# Altium footprint library Train2.PCBLIB: 223 footprints (part 1 of 14)
Each footprint in its own frame and in the unit in brackets; x right, y up, seen from the top. Pads: shape width x height; smd on the part's side, far side on the other; paste and mask are expansions set on the pad; w line width, h text height; cw(c..) or ccw(c..) is an arc to the next point about the centre after c.
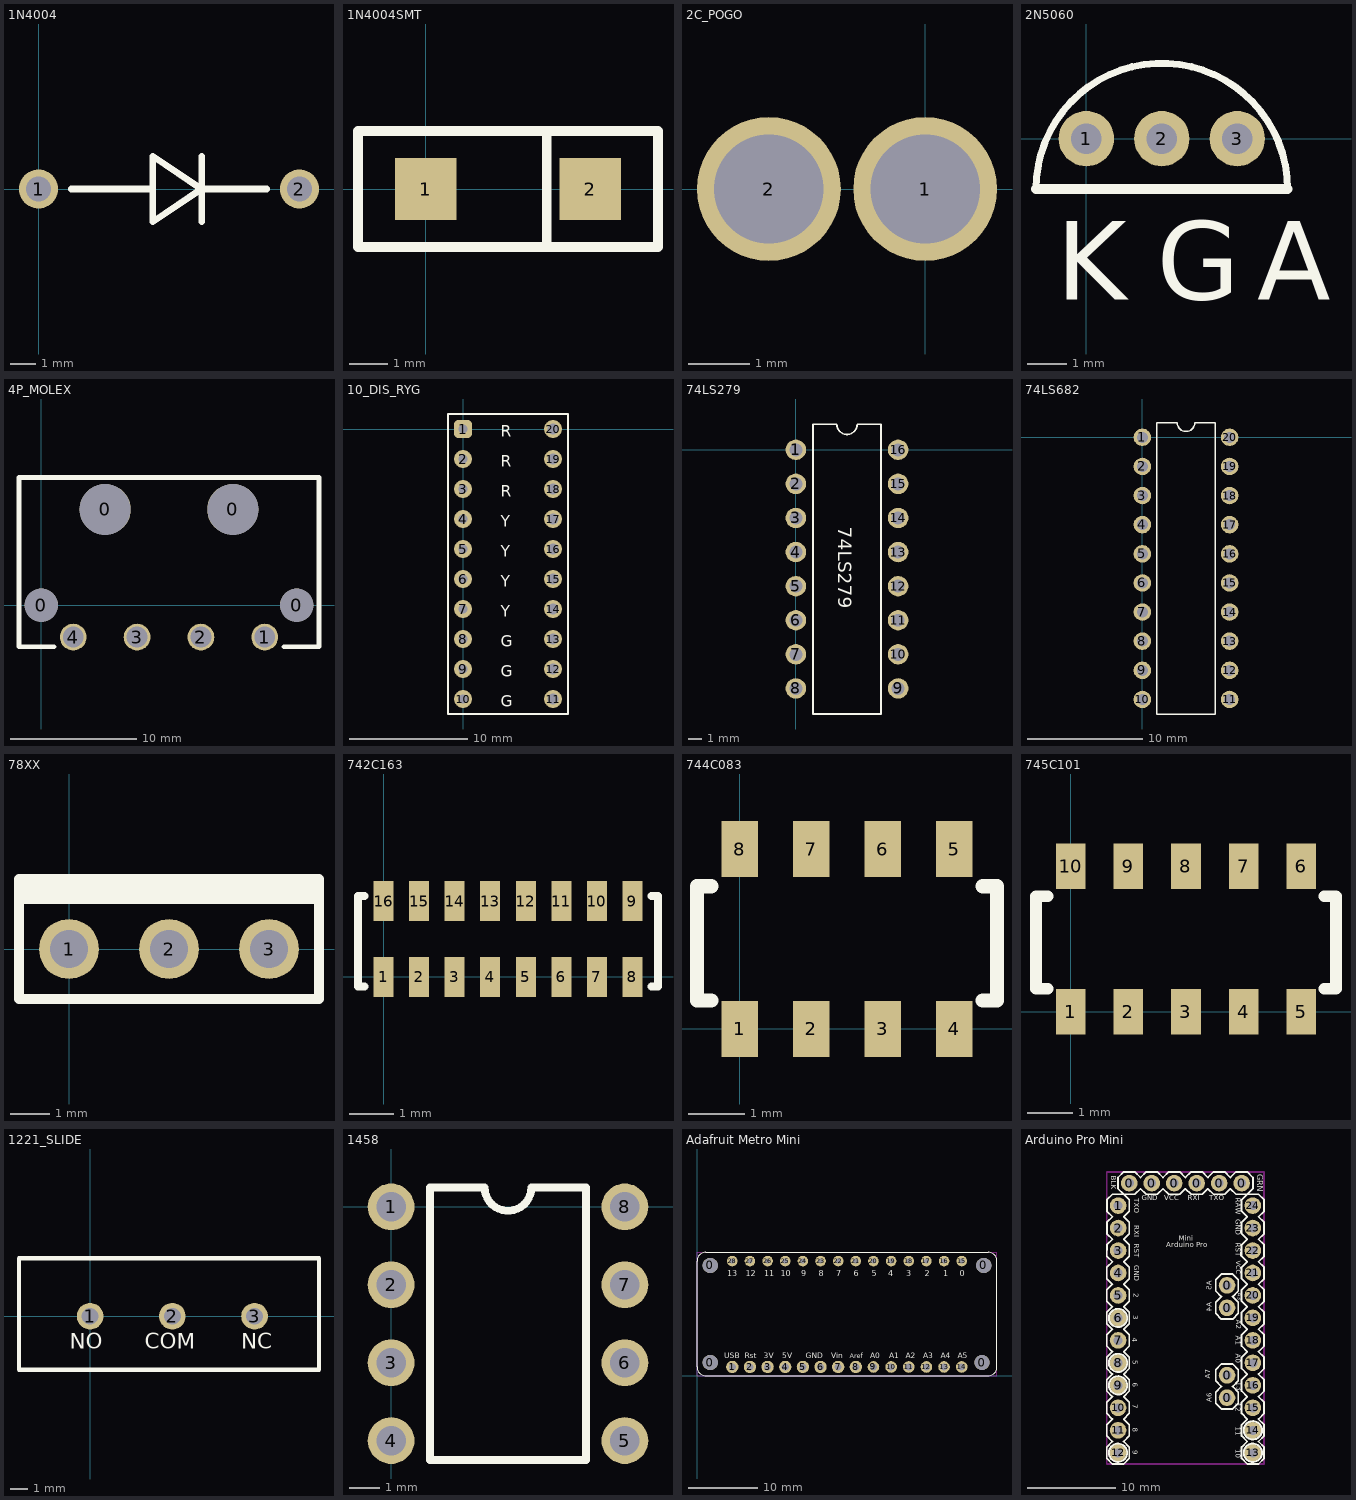
[diagram p0: the footprints below, top view; thin cyan lines are the x and y axes]

## 1N4004 [mil]
pads (2):
  round 60 hole 38: 1(0,0) 2(400,0)
Top Overlay:
  lines w10: 50,0 175,0 ; 250,-50 250,50 ; 350,0 250,0 ; 250,0 175,50 175,-50 250,0

## 1N4004SMT [mil]
pads (2):
  rect 64x64 smd: 1(0,0) 2(170,0)
Top Overlay:
  lines w10: 125,-60 125,60 ; -70,-60 -70,60 240,60 240,-60 -70,-60

## 2C_POGO [mil]
pads (2):
  round 92 hole 70: 1(0,0) 2(-100,0)

## 2N5060 [mil]
pads (3):
  round 55 hole 30: 1(0,0) 2(75,0) 3(150,0)
Top Overlay:
  lines w7: -50,-50 cw(c75,-50) 200,-50
  lines w10: -50,-50 200,-50
  text "G" at 70,-160 h78.12
  text "A" at 170,-160 h78.12
  text "K" at -30,-160 h78.12

## 4P_MOLEX [mil]
pads (8):
  round 104 hole 104 unplated: 0(0,0) 0(800,0)
  round 160 hole 160 unplated: 0(200,300) 0(600,300)
  round 84 hole 65: 1(700,-100) 2(500,-100) 3(300,-100) 4(100,-100)
Top Overlay:
  lines w15: 40,-130 -70,-130 -70,400 870,400 870,-130 760,-130
3D body "molex4pin.step": height 122, standoff -363, extent -61.01,-127.51 854.99,404.99

## 10_DIS_RYG [mil]
pads (20):
  rrect50% 60x60 hole 30: 1(0,0)
  round 60 hole 30: 2(0,-100) 3(0,-200) 4(0,-300) 5(0,-400) 6(0,-500) 7(0,-600) 8(0,-700) 9(0,-800) 10(0,-900)
  round 60 hole 38: 11(300,-900) 12(300,-800) 13(300,-700) 14(300,-600) 15(300,-500) 16(300,-400) 17(300,-300) 18(300,-200) 19(300,-100) 20(300,0)
Top Overlay:
  lines w7: -50,-950 350,-950 350,50 -50,50 -50,-950
  text "R" at 125,-125 h37.5
  text "G" at 125,-725 h37.5
  text "Y" at 125,-425 h37.5
  text "R" at 125,-25 h37.5
  text "Y" at 125,-325 h37.5
  text "R" at 125,-225 h37.5
  text "Y" at 125,-625 h37.5
  text "Y" at 125,-525 h37.5
  text "G" at 125,-925 h37.5
  text "G" at 125,-825 h37.5

## 74LS279 [mil]
pads (16):
  round 60 hole 38: 1(0,0) 2(0,-100) 3(0,-200) 4(0,-300) 5(0,-400) 6(0,-500) 7(0,-600) 8(0,-700) 9(300,-700) 10(300,-600) 11(300,-500) 12(300,-400) 13(300,-300) 14(300,-200) 15(300,-100) 16(300,0)
Top Overlay:
  lines w5: 50,-775 250,-775 250,75 180,75 cw(c150,75) 120,75 50,75 50,-775
  text "74LS279" at 125,-225 h40

## 74LS682 [mil]
pads (20):
  round 60 hole 38: 1(0,0) 2(0,-100) 3(0,-200) 4(0,-300) 5(0,-400) 6(0,-500) 7(0,-600) 8(0,-700) 9(0,-800) 10(0,-900) 11(300,-900) 12(300,-800) 13(300,-700) 14(300,-600) 15(300,-500) 16(300,-400) 17(300,-300) 18(300,-200) 19(300,-100) 20(300,0)
Top Overlay:
  lines w5: 50,-950 50,50 120,50 ccw(c150,50) 180,50 250,50 250,-950 50,-950

## 78XX [mil]
pads (3):
  round 60 hole 38: 1(0,0) 2(100,0) 3(200,0)
Top Overlay:
  lines w10: -50,50 250,50 ; -50,60 250,60 ; -50,-50 250,-50 250,70 -50,70 -50,-50

## 742C163 [mm]
pads (16):
  rect 0.45x0.9 smd: 1(0,0) 2(0.8,0) 3(1.6,0) 4(2.4,0) 5(3.2,0) 6(4,0) 7(4.8,0) 8(5.6,0) 9(5.6,1.7) 10(4.8,1.7) 11(4,1.7) 12(3.2,1.7) 13(2.4,1.7) 14(1.6,1.7) 15(0.8,1.7) 16(0,1.7)
Top Overlay:
  lines w0.178: -0.425,-0.216 -0.575,-0.216 -0.575,1.816 -0.425,1.816 ; 6.025,-0.216 6.175,-0.216 6.175,1.816 6.025,1.816

## 744C083 [mm]
pads (8):
  rect 0.65x1 smd: 1(0,0) 2(1.27,0) 3(2.54,0) 4(3.81,0) 5(3.81,3.2) 6(2.54,3.2) 7(1.27,3.2) 8(0,3.2)
Top Overlay:
  lines w0.254: -0.508,0.508 -0.762,0.508 -0.762,2.54 -0.508,2.54 ; 4.318,0.508 4.572,0.508 4.572,2.54 4.318,2.54

## 745C101 [mm]
pads (10):
  rect 0.65x1 smd: 1(0,0) 2(1.27,0) 3(2.54,0) 4(3.81,0) 5(5.08,0) 6(5.08,3.2) 7(3.81,3.2) 8(2.54,3.2) 9(1.27,3.2) 10(0,3.2)
Top Overlay:
  lines w0.254: -0.508,0.508 -0.762,0.508 -0.762,2.54 -0.508,2.54 ; 5.588,0.508 5.842,0.508 5.842,2.54 5.588,2.54

## 1221_SLIDE [mil]
pads (3):
  round 60 hole 38: 1(0,0) 2(185,0) 3(370,0)
Top Overlay:
  lines w10: -160,-120 -160,130 515,130 515,-120 -160,-120
  text "NO" at -46.24,-85.24 h60
  text "NC" at 339.58,-85.24 h60
  text "COM" at 123.05,-85.24 h60

## 1458 [mil]
pads (8):
  round 60 hole 38: 1(0,0) 2(0,-100) 3(0,-200) 4(0,-300) 5(300,-300) 6(300,-200) 7(300,-100) 8(300,0)
Top Overlay:
  lines w10: 50,-325 50,25 120,25 ccw(c150,25) 180,25 250,25 250,-325 50,-325

## Adafruit Metro Mini [mil] "Adafruit Metro Mini 328 - 5V 16MHz"
pads (32):
  round 87 hole 87: 0(75,75) 0(75,625) 0(1615,75) 0(1625,625)
  round 70 hole 40: 1(200,50) 2(300,50) 3(400,50) 4(500,50) 5(600,50) 6(700,50) 7(800,50) 8(900,50)
  round 66 hole 40: 9(1000,50) 10(1100,50) 11(1200,50) 12(1300,50) 13(1400,50) 14(1500,50)
  round 60 hole 30: 15(1500,650) 16(1400,650) 17(1300,650) 18(1200,650) 19(1100,650) 20(1000,650) 21(900,650) 22(800,650) 23(700,650) 24(600,650) 25(500,650) 26(400,650) 27(300,650) 28(200,650)
Top Overlay:
  lines w7: 0,50 ccw(c50,50) 50,0 1650,0 ccw(c1650,50) 1700,50 1700,650 ccw(c1650,650) 1650,700 50,700 ccw(c50,650) 0,650 0,50
  text "A0" at 982.6,98.93 h30
  text "Aref" at 865,100 h27
  text "Vin" at 760,100 h30
  text "GND" at 615.6,98.93 h30
  text "5V" at 482.6,98.93 h30
  text "3V" at 377.6,98.93 h30
  text "13" at 170.43,563.93 h34
  text "12" at 275.43,563.93 h34
  text "11" at 381.09,563.93 h34
  text "10" at 475.43,563.93 h34
  text "9" at 589.59,563.93 h34
  text "8" at 689.59,563.93 h34
  text "7" at 789.59,563.93 h34
  text "6" at 889.59,563.93 h34
  text "5" at 989.59,563.93 h34
  text "4" at 1084.59,563.93 h34
  text "3" at 1184.59,563.93 h34
  text "2" at 1289.59,563.93 h34
  text "1" at 1395.26,563.93 h34
  text "0" at 1489.59,563.93 h34
  text "A5" at 1477.6,98.93 h30
  text "A4" at 1382.6,98.93 h30
  text "A3" at 1282.6,98.93 h30
  text "A2" at 1182.6,98.93 h30
  text "A1" at 1088.26,98.93 h30
  text "USB" at 155.6,98.93 h30
  text "Rst" at 271.27,98.93 h30
Keep-Out Layer:
  lines w5: 0,0 0,700 1700,700 1700,0 0,0
Mechanical 16:
  rectangle: 1490,40 1510,60
  rectangle: 990,40 1010,60
  rectangle: 1090,40 1110,60
  rectangle: 1190,40 1210,60
  rectangle: 1290,40 1310,60
  rectangle: 1390,40 1410,60
  rectangle: 1490,640 1510,660
  rectangle: 1390,640 1410,660
  rectangle: 890,40 910,60
  rectangle: 190,40 210,60
  rectangle: 290,40 310,60
  rectangle: 390,40 410,60
  rectangle: 490,40 510,60
  rectangle: 590,40 610,60
  rectangle: 690,40 710,60
  rectangle: 790,40 810,60
Mechanical 92:
  text "D:/SmartProjects/Snc/a4_bn_logo2.bmp" at 0,-2.5 h0.85

## Arduino Pro Mini [mil]
pads (34):
  round 74 hole 40: 0(-49636.22,-48545.28) 0(-49536.22,-48545.28) 0(-49436.22,-48545.28) 0(-49336.22,-48545.28) 0(-49236.22,-48545.28) 0(-49201.22,-49500.28) 0(-49201.21,-49100.28) 0(-49201.19,-49400.28) 0(-49201.18,-49000.28) 0(-49136.22,-48545.28) 1(-49685.88,-48645.28) 2(-49685.91,-48745.28) 3(-49685.94,-48845.28) 4(-49685.97,-48945.28) 5(-49686.01,-49045.28) 6(-49686.04,-49145.28) 7(-49686.07,-49245.28) 8(-49686.1,-49345.28) 9(-49686.13,-49445.28) 10(-49686.16,-49545.28) 11(-49686.19,-49645.28) 12(-49686.22,-49745.28) 13(-49086.26,-49745.28) 14(-49086.26,-49645.28) 15(-49086.25,-49545.28) 16(-49086.25,-49445.28) 17(-49086.24,-49345.28) 18(-49086.24,-49245.28) 19(-49086.24,-49145.28) 20(-49086.23,-49045.28) 21(-49086.23,-48945.28) 22(-49086.23,-48845.28) 23(-49086.22,-48745.28) 24(-49086.22,-48645.28)
Top Overlay:
  drawing of 220 lines, arcs and shapes, not listed
  text "A4" at -49261.22,-49075.28 h40
  text "A5" at -49261.22,-48980.28 h40
  text "A6" at -49261.22,-49520.28 h40
  text "A7" at -49266.22,-49415.28 h40
  text "GND" at -49171.22,-48705.28 h40
  text "Arduino Pro" at -49471.22,-48840.28 h40
  text "Mini" at -49416.22,-48810.28 h40
  text "9" at -49630.43,-49734.17 h40
  text "8" at -49630.43,-49634.11 h40
  text "7" at -49630.43,-49529.57 h40
  text "6" at -49630.43,-49434 h40
  text "5" at -49629.74,-49333.94 h40
  text "4" at -49630.95,-49232.74 h40
  text "3" at -49628.43,-49134.29 h40
  text "2" at -49626.22,-49035.28 h40
  text "GND" at -49623.01,-48911.37 h40
  text "RST" at -49623.01,-48815.92 h40
  text "RXI" at -49623,-48733.78 h40
  text "TXO" at -49623.01,-48612.07 h40
  text "TXO" at -49281.22,-48630.28 h40
  text "RXI" at -49376.22,-48630.28 h40
  text "RAW" at -49171.22,-48610.28 h40
  text "RST" at -49171.22,-48810.28 h40
  text "VCC" at -49166.22,-48890.28 h35
  text "A3" at -49161.22,-49034.28 h30
  text "A2" at -49169.22,-49154.28 h40
  text "A1" at -49171.22,-49225.28 h40
  text "A0" at -49171.22,-49305.28 h40
  text "13" at -49166.22,-49430.28 h40
  text "12" at -49171.13,-49522.48 h40
  text "11" at -49171.13,-49629.77 h40
  text "10" at -49171.22,-49730.28 h40
  text "VCC" at -49481.22,-48630.28 h40
  text "GND" at -49581.22,-48630.28 h40
  text "BLK" at -49724.41,-48511.81 h40
  text "GRN" at -49076.22,-48505.28 h45
Keep-Out Layer:
  lines w8: -49736.22,-49795.28 -49736.22,-48495.28 -49036.22,-48495.28 -49036.22,-49795.28 -49736.22,-49795.28
Mechanical 30:
  region: -49191.21,-49110.21 -49191.2,-49090.21 -49211.2,-49090.21 -49211.21,-49110.21
  region: -49191.18,-49010.28 -49191.17,-48990.28 -49211.17,-48990.27 -49211.18,-49010.27
  region: -49096.26,-49735.28 -49096.26,-49755.28 -49076.26,-49755.28 -49076.26,-49735.28
  region: -49096.25,-49635.28 -49096.26,-49655.28 -49076.26,-49655.28 -49076.25,-49635.28
  region: -49096.25,-49535.28 -49096.25,-49555.28 -49076.25,-49555.28 -49076.25,-49535.28
  region: -49096.25,-49435.28 -49096.25,-49455.28 -49076.25,-49455.28 -49076.25,-49435.28
  region: -49096.24,-49335.28 -49096.24,-49355.28 -49076.24,-49355.28 -49076.24,-49335.28
  region: -49096.22,-48635.28 -49096.22,-48655.28 -49076.22,-48655.28 -49076.22,-48635.28
  region: -49096.22,-48735.28 -49096.22,-48755.28 -49076.22,-48755.28 -49076.22,-48735.28
  region: -49096.22,-48835.28 -49096.22,-48855.28 -49076.22,-48855.28 -49076.22,-48835.28
  region: -49096.23,-48935.28 -49096.23,-48955.28 -49076.23,-48955.28 -49076.23,-48935.28
  region: -49096.23,-49035.28 -49096.23,-49055.28 -49076.23,-49055.28 -49076.23,-49035.28
  region: -49096.24,-49135.28 -49096.24,-49155.28 -49076.24,-49155.28 -49076.24,-49135.28
  region: -49096.24,-49235.28 -49096.24,-49255.28 -49076.24,-49255.28 -49076.24,-49235.28
  region: -49675.89,-48655.28 -49675.88,-48635.28 -49695.88,-48635.27 -49695.89,-48655.27
  region: -49675.92,-48755.28 -49675.91,-48735.28 -49695.91,-48735.28 -49695.92,-48755.28
  region: -49675.95,-48855.28 -49675.94,-48835.28 -49695.94,-48835.27 -49695.95,-48855.27
  region: -49675.98,-48955.28 -49675.97,-48935.28 -49695.97,-48935.27 -49695.98,-48955.27
  region: -49676.01,-49055.28 -49676,-49035.28 -49696,-49035.28 -49696.01,-49055.28
  region: -49676.22,-49755.28 -49676.22,-49735.28 -49696.22,-49735.28 -49696.22,-49755.28
  region: -49676.19,-49655.28 -49676.19,-49635.28 -49696.19,-49635.27 -49696.19,-49655.27
  region: -49676.16,-49555.28 -49676.16,-49535.28 -49696.16,-49535.28 -49696.16,-49555.28
  region: -49676.13,-49455.28 -49676.13,-49435.28 -49696.13,-49435.28 -49696.13,-49455.28
  region: -49676.1,-49355.28 -49676.09,-49335.28 -49696.09,-49335.27 -49696.1,-49355.27
  region: -49676.07,-49255.28 -49676.06,-49235.28 -49696.06,-49235.28 -49696.07,-49255.28
  region: -49676.04,-49155.28 -49676.03,-49135.28 -49696.03,-49135.27 -49696.04,-49155.27
  region: -49126.22,-48535.28 -49146.22,-48535.28 -49146.22,-48555.28 -49126.22,-48555.28
  region: -49226.22,-48535.28 -49246.22,-48535.28 -49246.22,-48555.28 -49226.22,-48555.28
  region: -49326.22,-48535.28 -49346.22,-48535.28 -49346.22,-48555.28 -49326.22,-48555.28
  region: -49426.22,-48535.28 -49446.22,-48535.28 -49446.22,-48555.28 -49426.22,-48555.28
  region: -49526.22,-48535.28 -49546.22,-48535.28 -49546.22,-48555.28 -49526.22,-48555.28
  region: -49626.22,-48535.28 -49646.22,-48535.28 -49646.22,-48555.28 -49626.22,-48555.28
  region: -49191.22,-49510.28 -49191.22,-49490.28 -49211.22,-49490.28 -49211.22,-49510.28
  region: -49191.19,-49410.28 -49191.19,-49390.28 -49211.19,-49390.27 -49211.19,-49410.27